# Altium footprint library PCB - RESISTOR - ARRAY - VISHAY ACAS 0606 AT.PCBLIB: 1 footprints
Each footprint in its own frame and in the unit in brackets; x right, y up, seen from the top. Pads: shape width x height; smd on the part's side, far side on the other; paste and mask are expansions set on the pad; w line width, h text height; cw(c..) or ccw(c..) is an arc to the next point about the centre after c.
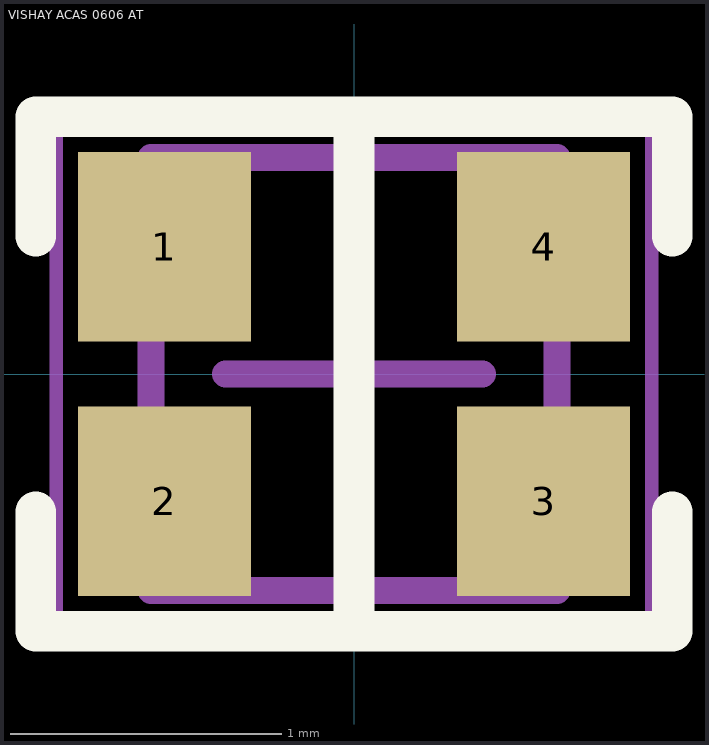
[diagram p0: the footprint, top view; thin cyan lines are the x and y axes]

## VISHAY ACAS 0606 AT [mm] "Chip Resistor Array"
height 0.45
pads (4):
  rect 0.64x0.7 smd: 1(-0.7,0.47) 2(-0.7,-0.47) 3(0.7,-0.47) 4(0.7,0.47)
Top Overlay:
  lines w0.15: -1.175,-0.508 -1.175,-0.95 1.175,-0.95 1.175,-0.508 ; -1.175,0.508 -1.175,0.95 1.175,0.95 1.175,0.508 ; 0,-0.95 0,0.95
Mechanical 13:
  lines w0.1: -0.75,-0.8 -0.75,0.8 0.75,0.8 0.75,-0.8 -0.75,-0.8
Mechanical 15:
  lines w0.05: -1.1,-0.9 -1.1,0.9 1.1,0.9 1.1,-0.9 -1.1,-0.9
  lines w0.1: -0.475,0 0.475,0 ; 0,-0.475 0,0.475
3D body "VISHAY ACAS 0606 AT.step": height 0.47, standoff 0, extent -0.75,-0.8 0.75,0.8